# EAGLE library part RHP1001_OLD (library harrison)
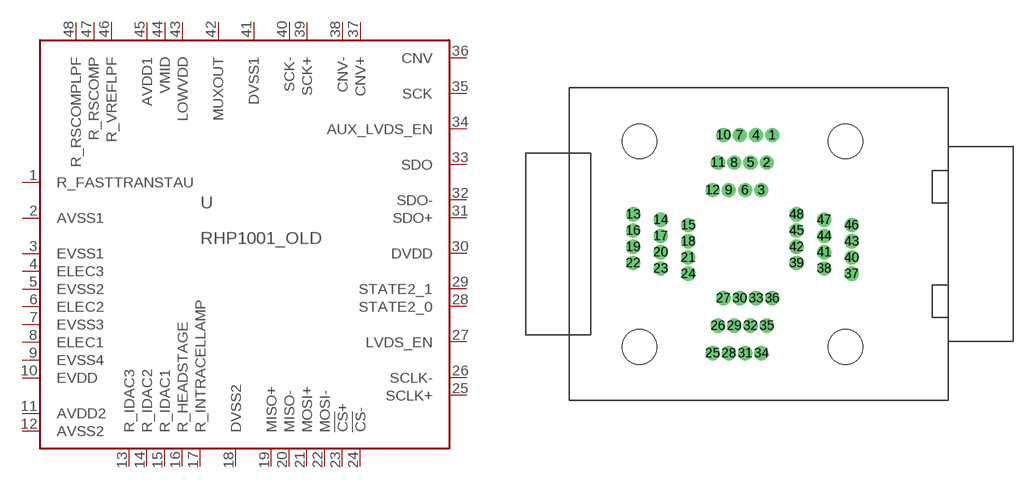
[diagram p68: symbol with the pads of ZIF_QFP48_7_X_7; footprint ZIF_QFP48_7_X_7]

Designator prefix U

## RHP1001_OLD_ZIF_QFP48  [ZIF_QFP48_7_X_7]
1  R_FASTTRANSTAU  pas
2  AVSS1  pwr
3  EVSS1  pwr
4  ELEC3  in
5  EVSS2  pwr
6  ELEC2  in
7  EVSS3  pwr
8  ELEC1  in
9  EVSS4  pwr
10  EVDD  pwr
11  AVDD2  pwr
12  AVSS2  pwr
13  R_IDAC3  pas
14  R_IDAC2  pas
15  R_IDAC1  pas
16  R_HEADSTAGE  pas
17  R_INTRACELLAMP  pas
18  DVSS2  pwr
19  MISO+  out
20  MISO-  out
21  MOSI+  in
22  MOSI-  in
23  !CS!+  in
24  !CS!-  in
25  SCLK+  in
26  SCLK-  in
27  LVDS_EN  in
28  STATE2_0  out
29  STATE2_1  out
30  DVDD  pwr
31  SDO+  out
32  SDO-  out
33  SDO  in
34  AUX_LVDS_EN  in
35  SCK  out
36  CNV  out
37  CNV+  in
38  CNV-  in
39  SCK+  in
40  SCK-  in
41  DVSS1  pwr
42  MUXOUT  out
43  LOWVDD  pwr
44  VMID  pwr
45  AVDD1  pwr
46  R_VREFLPF  pas
47  R_RSCOMP  pas
48  R_RSCOMPLPF  pas

## Footprint ZIF_QFP48_7_X_7 (pad centres in mm)
drill 0.8 pad 1.27: 1 2.75,10.08; 2 2.25,7.54; 3 1.75,5; 4 1.25,10.08; 5 0.75,7.54; 6 0.25,5; 7 -0.25,10.08; 8 -0.75,7.54; 9 -1.25,5; 10 -1.75,10.08; 11 -2.25,7.54; 12 -2.75,5; 13 -10.08,2.75; 14 -7.54,2.25; 15 -5,1.75; 16 -10.08,1.25; 17 -7.54,0.75; 18 -5,0.25; 19 -10.08,-0.25; 20 -7.54,-0.75; 21 -5,-1.25; 22 -10.08,-1.75; 23 -7.54,-2.25; 24 -5,-2.75; 25 -2.75,-10.08; 26 -2.25,-7.54; 27 -1.75,-5; 28 -1.25,-10.08; 29 -0.75,-7.54; 30 -0.25,-5; 31 0.25,-10.08; 32 0.75,-7.54; 33 1.25,-5; 34 1.75,-10.08; 35 2.25,-7.54; 36 2.75,-5; 37 10.08,-2.75; 38 7.54,-2.25; 39 5,-1.75; 40 10.08,-1.25; 41 7.54,-0.75; 42 5,-0.25; 43 10.08,0.25; 44 7.54,0.75; 45 5,1.25; 46 10.08,1.75; 47 7.54,2.25; 48 5,2.75
hole 3.2 at 9.5,9.5
hole 3.2 at -9.5,9.5
hole 3.2 at -9.5,-9.5
hole 3.2 at 9.5,-9.5